# Altium schematic symbol library Inductors_shared.SchLib: 1 symbol
Pins are listed as number, name and electrical type; pins without a type are passive.

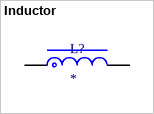
[diagram p0: symbol Inductor]

## Inductor
designator L?
Standard inductor symbol
pins: 1, 2